# Altium schematic symbol library TPS61085ATDGKRQ1.SchLib: 1 symbol
Pins are listed as number, name and electrical type; pins without a type are passive.

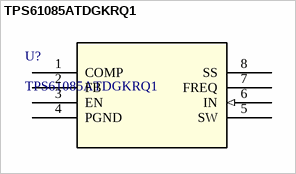
[diagram p0: symbol TPS61085ATDGKRQ1]

## TPS61085ATDGKRQ1
designator U?
No Description Available; Mfr_Name: Texas Instruments; Copyright: Copyright (C) 2022 Ultra Librarian. All rights reserved.; Manufacturer_Part_Number: TPS61085ATDGKRQ1; RefDes: RefDes; Type: DEV
footprint SOIC_ATDGKTQ1_TEX
pins: 1 COMP, 2 FB, 3 EN, 4 PGND, 5 SW, 6 IN (in), 7 FREQ, 8 SS